# Altium schematic symbol library st-audio.SchLib: 1 symbol
Pins are listed as number, name and electrical type; pins without a type are passive.

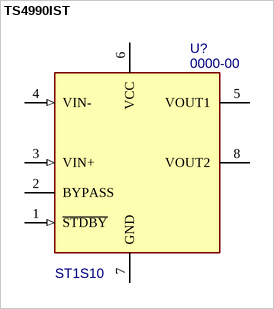
[diagram p0: symbol TS4990IST]

## TS4990IST
designator U?, comment 0000-00  value ST1S10
1.2 W audio power amplifier with active-low standby mode; PN: 0000-00; Package: *
footprint MiniSO-8M (TSOP, 8-Leads, Body 3.2x3.1mm (max), Pitch 0.65mm, IPC Medium Density)
pins: 1 ~{STDBY} (in), 2 BYPASS, 3 VIN+ (in), 4 VIN- (in), 5 VOUT1, 6 VCC (power), 7 GND (power), 8 VOUT2